# Altium schematic symbol library T-connect FEMALE.Schlib: 1 symbol
Pins are listed as number, name and electrical type; pins without a type are passive.

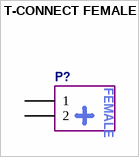
[diagram p0: symbol T-CONNECT FEMALE]

## T-CONNECT FEMALE
designator P?  (value not drawn)
pins: 1, 2
text: FEMALE